# EAGLE library part SP485ES-L (library Exar_By_element14_Batch_1)
Low Power Half-Duplex RS-485 Transceivers
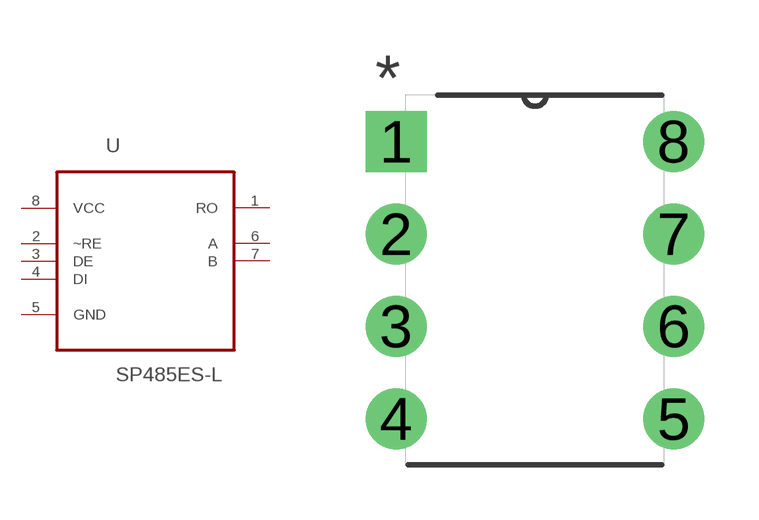
[diagram p49: symbol with the pads of DIP254P762X533-8N; footprint DIP254P762X533-8N]

Designator prefix U

## SP485ES-L (MPN: SP485ES-L; OC_FARNELL: 1831935; OC_NEWARK: 84R4426; PACKAGE: PDIP-8; SUPPLIER: EXAR)  [DIP254P762X533-8N]
1  RO  out
2  ~RE  in
3  DE  in
4  DI  in
5  GND  pas
6  A
7  B
8  VCC  pwr

## Footprint DIP254P762X533-8N (pad centres in mm)
drill 1.118 square: 1 -7.62,7.62
drill 1.118: 2 -7.62,5.08; 3 -7.62,2.54; 4 -7.62,0; 5 0,0; 6 0,2.54; 7 0,5.08; 8 0,7.62